# Altium footprint library CP_RADIAL_D10.0_P5.0_H17.5.PcbLib: 1 footprints
Each footprint in its own frame and in the unit in brackets; x right, y up, seen from the top. Pads: shape width x height; smd on the part's side, far side on the other; paste and mask are expansions set on the pad; w line width, h text height; cw(c..) or ccw(c..) is an arc to the next point about the centre after c.
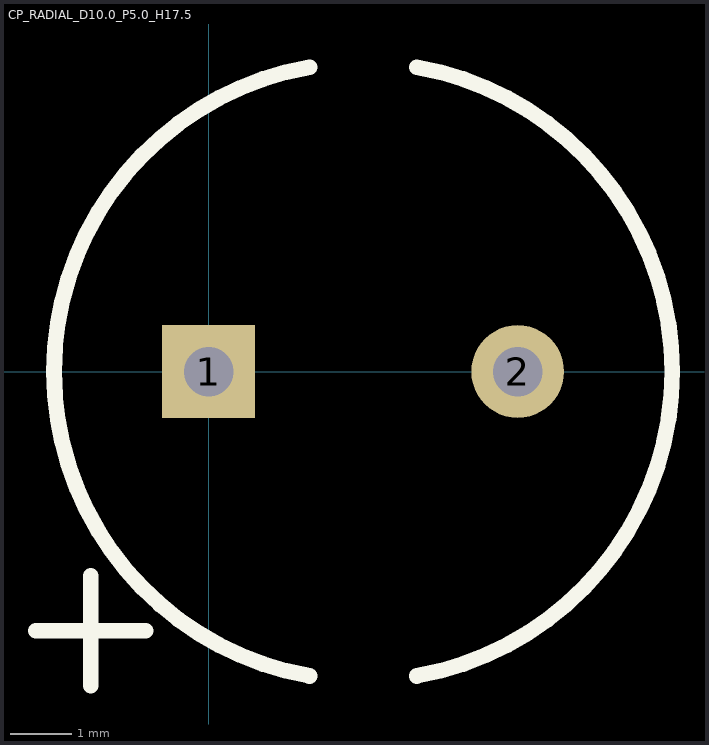
[diagram p0: the footprint, top view; thin cyan lines are the x and y axes]

## CP_RADIAL_D10.0_P5.0_H17.5 [mm] "2 Leaded Al Cap, 5mm spacing, 10mm diameter"
height 20
pads (2):
  rect 1.5x1.5 hole 0.8: 1(0,0)
  round 1.5 hole 0.8: 2(5,0)
Top Overlay:
  lines w0.254: -2.794,-4.191 -1.016,-4.191 ; -1.905,-5.08 -1.905,-3.302 ; 1.632,-4.924 cw(c2.5,0) 1.632,4.924 ; 3.368,-4.924 ccw(c2.5,0) 3.368,4.924
3D body: height 0.25, standoff -26.8, extent -2.54,0 -2.54,0
3D body: height 17.5, standoff 0, extent -2.46,-5 7.54,5